# Altium schematic symbol library DSP_Freescale.SchLib: 1 symbol
Pins are listed as number, name and electrical type; pins without a type are passive.

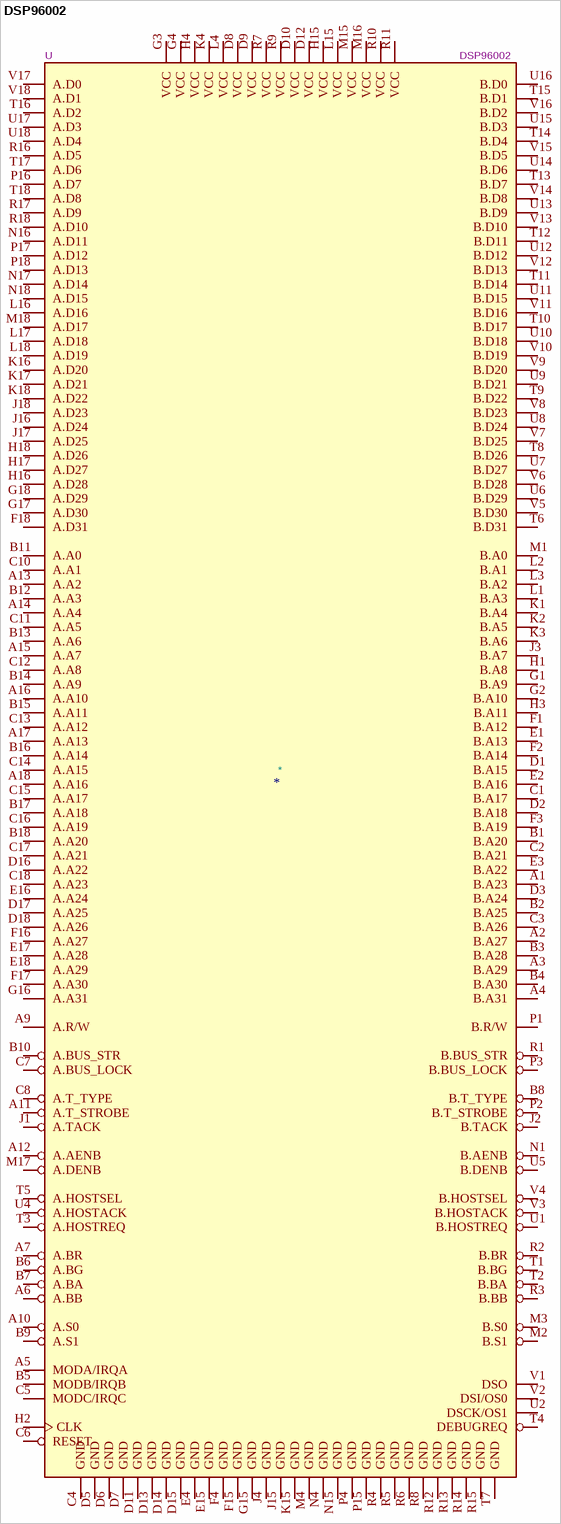
[diagram p0: symbol DSP96002]

## DSP96002
designator *  value DSP96002  Reference: U
32-bit General Purpose Floating-point DSP, Dual Port, PGA-223; ki_keywords: DSP 32bit Dual Port Processor; ki_fp_filters: PGA-223*; Datasheet: http://cache.freescale.com/files/dsp/doc/inactive/DSP96002.pdf; Description_: 32-bit General Purpose Floating-point DSP, Dual Port, PGA-223
pins: A1 B.A23, A2 B.A27, A3 B.A29, A4 B.A31, A5 MODA/IRQA, A6 A.BB, A7 A.BR, A9 A.R/W, A10 A.S0, A11 A.T_STROBE, A12 A.AENB, A13 A.A2, A14 A.A4, A15 A.A7, A16 A.A10, A17 A.A13, A18 A.A16, B1 B.A20, B2 B.A25, B3 B.A28, B4 B.A30, B5 MODB/IRQB, B6 A.BG, B7 A.BA, B8 B.T_TYPE, B9 A.S1, B10 A.BUS_STR, B11 A.A0, B12 A.A3, B13 A.A6, B14 A.A9, B15 A.A11, B16 A.A14, B17 A.A18, B18 A.A20, C1 B.A17, C2 B.A21, C3 B.A26, C4 GND, C5 MODC/IRQC, C6 RESET, C7 A.BUS_LOCK, C8 A.T_TYPE, C10 A.A1, C11 A.A5, C12 A.A8, C13 A.A12, C14 A.A15, C15 A.A17, C16 A.A19, C17 A.A21, C18 A.A23, D1 B.A15, D2 B.A18, D3 B.A24, D5 GND, D6 GND, D7 GND, D8 VCC, D9 VCC, D10 VCC, D11 GND, D12 VCC, D13 GND, D14 GND, D15 GND, D16 A.A22, D17 A.A25, D18 A.A26, E1 B.A13, E2 B.A16, E3 B.A22, E4 GND, E15 GND, E16 A.A24, E17 A.A28, E18 A.A29, F1 B.A12, F2 B.A14, F3 B.A19, F4 GND, F15 GND, F16 A.A27, F17 A.A30, F18 A.D31, G1 B.A9, G2 B.A10, G3 VCC, G4 VCC, G15 GND, G16 A.A31, G17 A.D30, G18 A.D29, H1 B.A8, H2 CLK, H3 B.A11, H4 VCC, H15 VCC, H16 A.D28, H17 A.D27, H18 A.D26, J1 A.TACK, J2 B.TACK, J3 B.A7, J4 GND, J15 GND, J16 A.D24, J17 A.D25, J18 A.D23, K1 B.A4, K2 B.A5, K3 B.A6, K4 VCC, K15 GND, K16 A.D20, K17 A.D21, K18 A.D22, L1 B.A3, L2 B.A1, L3 B.A2, L4 VCC, L15 VCC, L16 A.D16, L17 A.D18, L18 A.D19, M1 B.A0, M2 B.S1, M3 B.S0, M4 GND, M15 VCC, M16 VCC, M17 A.DENB, M18 A.D17, N1 B.AENB, N4 GND, N15 GND, N16 A.D11, N17 A.D14, N18 A.D15, P1 B.R/W, P2 B.T_STROBE, P3 B.BUS_LOCK, P4 GND, P15 GND, P16 A.D7, P17 A.D12, P18 A.D13, R1 B.BUS_STR, R2 B.BR, R3 B.BB, R4 GND, R5 GND, R6 GND, R7 VCC, R8 GND, R9 VCC, R10 VCC, R11 VCC, R12 GND, R13 GND, R14 GND, R15 GND, R16 A.D5, R17 A.D9, R18 A.D10, T1 B.BG, T2 B.BA, T3 A.HOSTREQ, T4 DEBUGREQ, T5 A.HOSTSEL, T6 B.D31, T7 GND, T8 B.D26, T9 B.D22, T10 B.D17, T11 B.D14, T12 B.D11, T13 B.D7, T14 B.D4, T15 B.D1, T16 A.D2, T17 A.D6, T18 A.D8, U1 B.HOSTREQ, U2 DSCK/OS1, U4 A.HOSTACK, U5 B.DENB, U6 B.D29, U7 B.D27, U8 B.D24, U9 B.D21, U10 B.D18, U11 B.D15, U12 B.D12, U13 B.D9, U14 B.D6, U15 B.D3, U16 B.D0, U17 A.D3, U18 A.D4, V1 DSO, V2 DSI/OS0, V3 B.HOSTACK, V4 B.HOSTSEL, V5 B.D30, V6 B.D28, V7 B.D25, V8 B.D23, V9 B.D20, V10 B.D19, V11 B.D16, V12 B.D13, V13 B.D10, V14 B.D8, V15 B.D5, V16 B.D2, V17 A.D0, V18 A.D1